# Altium integrated library S2B-XH-A.IntLib: 1 symbol
Pins are listed as number, name and electrical type; pins without a type are passive.

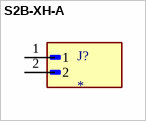
[diagram p0: symbol S2B-XH-A]

## S2B-XH-A
designator J?
MP: S2B-XH-A; Package: None; Price: None; Value: *; Availability: Unavailable
footprint JST_S2B-XH-A
pins: 1, 2